# Altium schematic symbol library VBlib_Switches.SchLib: 11 symbols
Pins are listed as number, name and electrical type; pins without a type are passive.

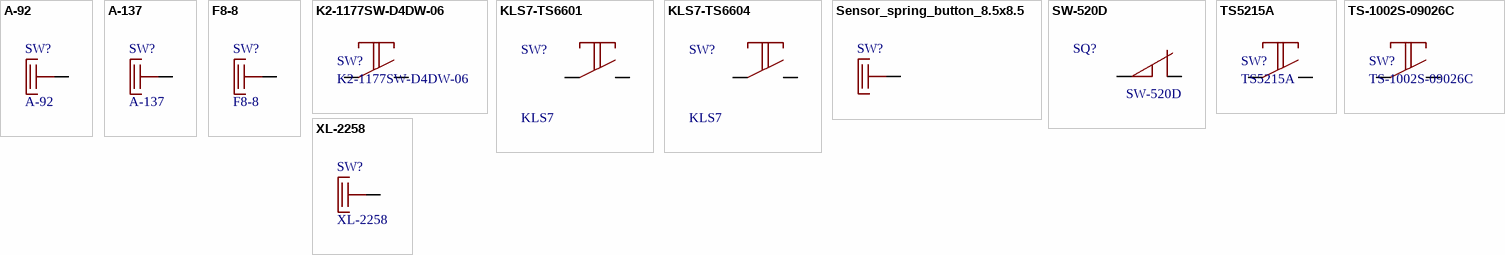
[diagram p0: symbols A-92 to XL-2258]

## A-92
designator SW?
BUTTON, Sensor Spring D=6.5/10, H=10mm
footprint A-92 (A-92 Sensor Spring)
pins: 1

## A-137
designator SW?
BUTTON, Sensor Spring D=7.5/8.5, H=4±0.5mm
footprint A-137
footprint A-137_1
pins: 1

## F8-8
designator SW?
Sensor Spring F8-8, D=8.0mm, H=8±0.5mm (直筒内绕)
footprint XL-2258 (Sensor Spring XL-2258)
pins: 1

## K2-1177SW-D4DW-06
designator SW?
SPST 50mA @ 12VDC Vertical Round Button 3*3*2mm Tactile Switch
footprint K2-1177SW-D4DW-06
pins: 1, 2

## KLS7-TS6601
designator SW?, comment KLS7-TS6601-4.3-180  (value not drawn)
Tact Switch, 6x6x4.3mm, Through Holes
footprint KLS7_6_6_4.3_THROUGH_HOLES
pins: 1, 2
text: KLS7

## KLS7-TS6604
designator SW?, comment KLS7-TS6604-4.3-180  (value not drawn)
Tact Switch, 6x6x4.3mm, SMD
footprint KLS7_6_6_4.3_SMD
footprint KLS7_6_6_5.0_SMD
pins: 1, 2
text: KLS7

## Sensor_spring_button_8.5x8.5
designator SW?, comment BUTTON  (value not drawn)
BUTTON, Sensor Spring D=5/8.5, H=8.5±0.5mm
footprint Sensor_spring_button_8.5x8.5
footprint Sensor_spring_button_8.5x8.5_COMPRESSED (Sensor_spring_button_8.5x8.5)
pins: 1

## SW-520D
designator SQ?
Roll Ball Switch
footprint SW-520D (Roll Ball Switch)
footprint SW-520D_1 (Roll Ball Switch)
pins: 1, 2

## TS5215A
designator SW?
footprint TS5215A
pins: 1, 2

## TS-1002S-09026C
designator SW?
Tact Switch, 6x6x9.0mm, SMD
footprint TS-1002S-09026C
pins: 1, 2

## XL-2258
designator SW?
BUTTON, Sensor Spring D=7.5/8.5, H=4±0.5mm
footprint XL-2258 (Sensor Spring XL-2258)
pins: 1